# Altium footprint library CAP.PcbLib: 17 footprints (part 2 of 2)
Each footprint in its own frame and in the unit in brackets; x right, y up, seen from the top. Pads: shape width x height; smd on the part's side, far side on the other; paste and mask are expansions set on the pad; w line width, h text height; cw(c..) or ccw(c..) is an arc to the next point about the centre after c.
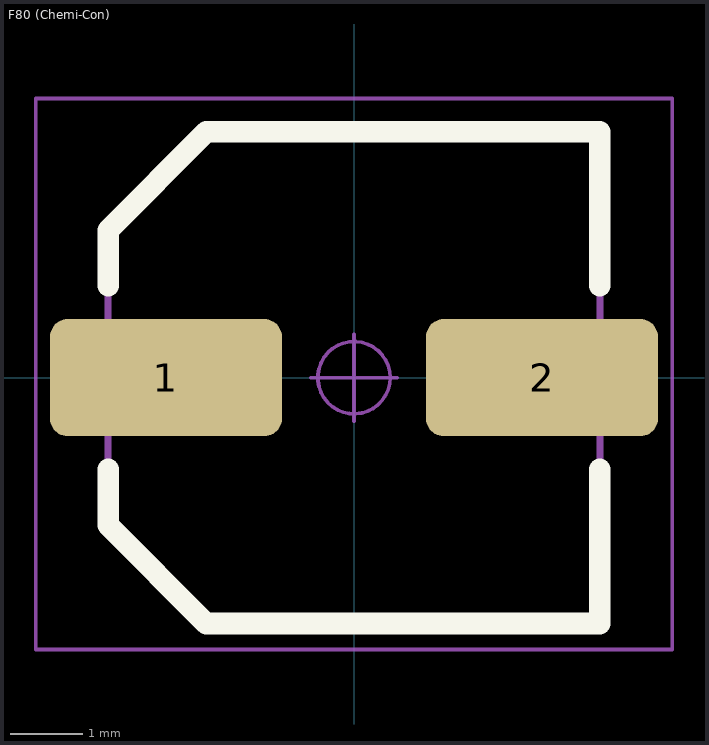
[diagram p1: the footprint, top view; thin cyan lines are the x and y axes]

## F80 (Chemi-Con) [mm]
pads (2):
  rrect30% 3.21x1.62 smd: 1(-2.6,0) 2(2.6,0)
Top Overlay:
  lines w0.3: -3.4,-1.27 -3.4,-2.04 -2.04,-3.4 3.4,-3.4 3.4,-1.27 ; -3.4,1.27 -3.4,2.04 -2.04,3.4 3.4,3.4 3.4,1.27
Top Assembly:
  lines w0.1: -3.4,-2 -3.4,2 -2,3.4 3.4,3.4 3.4,-3.4 -2,-3.4 -3.4,-2
Top Component Outline:
  circle w0.05: c0,0 r0.5
  lines w0.05: -0.6,0 0.6,0 ; 0,-0.6 0,0.6 ; -4.4,-3.759 4.4,-3.759 4.4,3.861 -4.4,3.861 -4.4,-3.759
3D body "CAP_HXB-F80_NIP.step": height 10.06, standoff 0, extent -3.696,-3.404 3.696,3.404